# Altium footprint library ISO-V3.PcbLib: 63 footprints (part 1 of 4)
Each footprint in its own frame and in the unit in brackets; x right, y up, seen from the top. Pads: shape width x height; smd on the part's side, far side on the other; paste and mask are expansions set on the pad; w line width, h text height; cw(c..) or ccw(c..) is an arc to the next point about the centre after c.
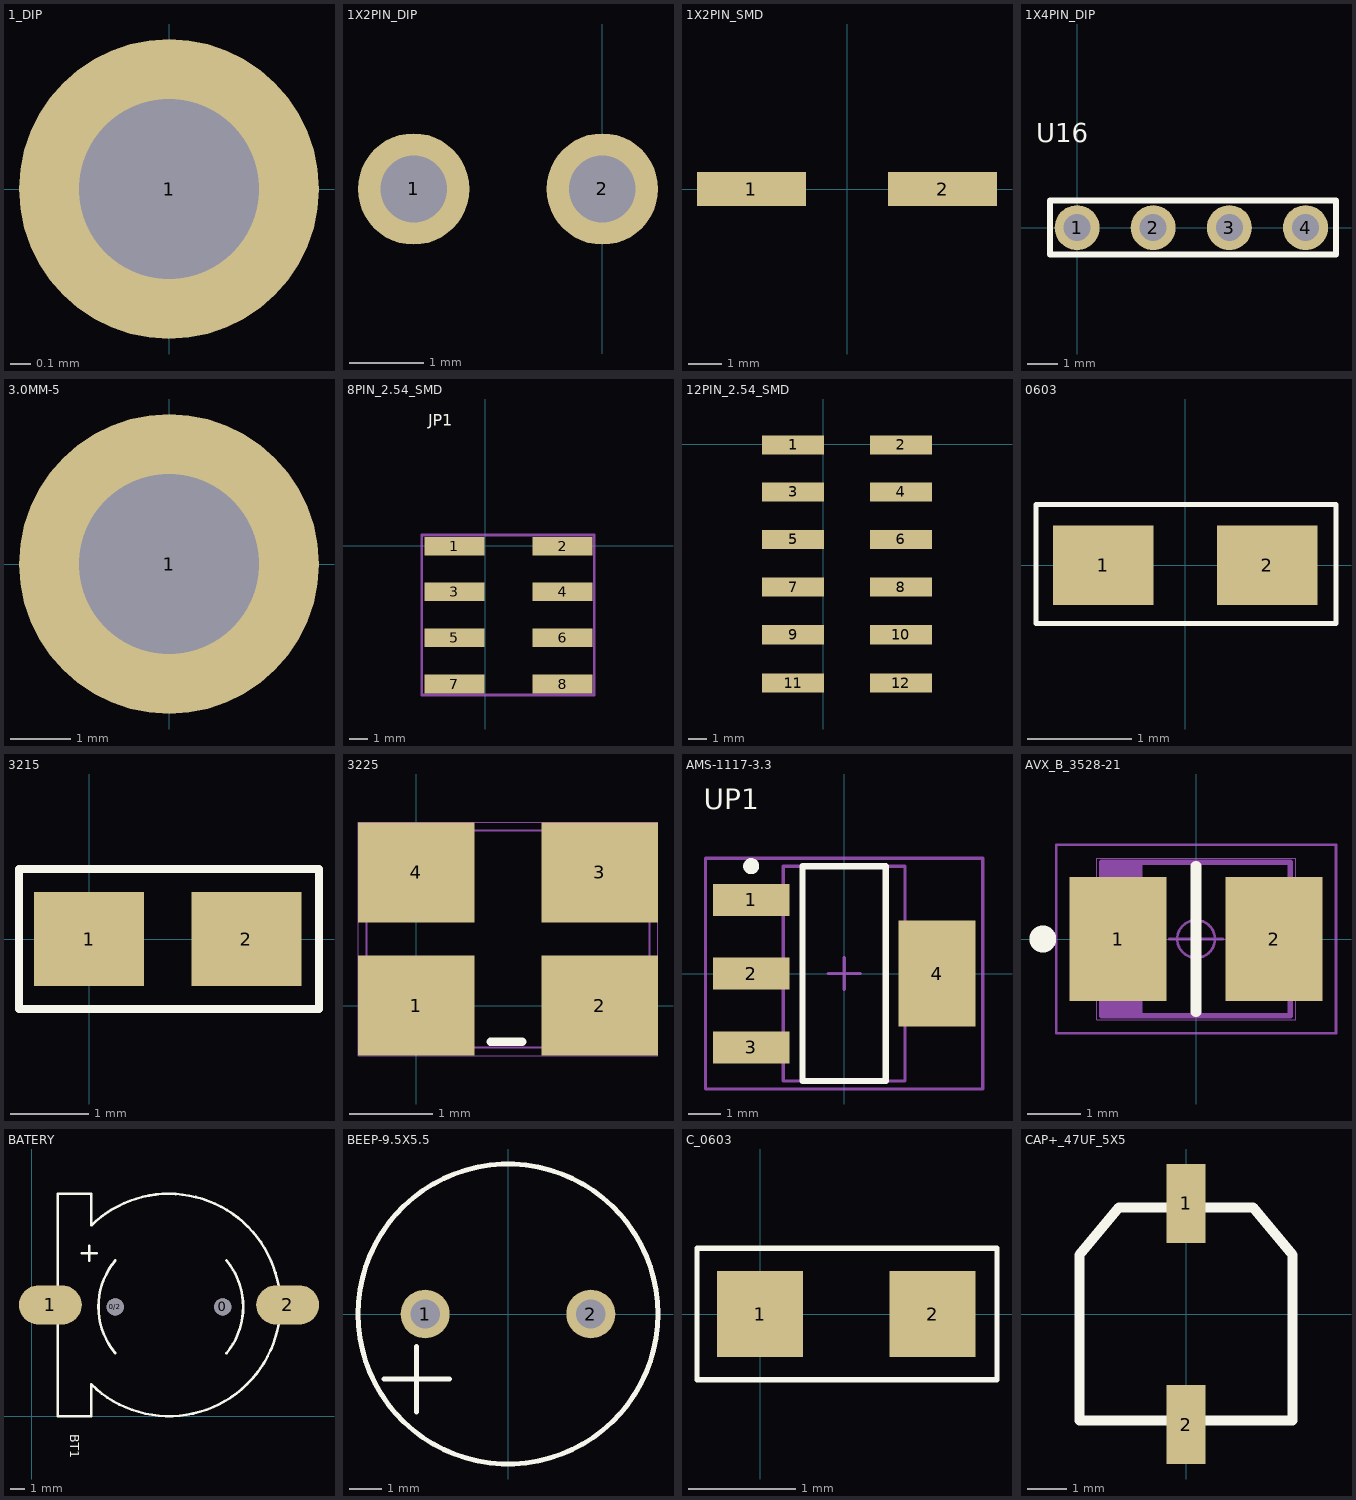
[diagram p0: the footprints below, top view; thin cyan lines are the x and y axes]

## 1_DIP [mm]
pads (1):
  round 1.5 hole 0.9: 1(0,0)

## 1X2PIN_DIP [mm]
pads (2):
  round 1.5 hole 0.9: 1(-2.54,2.54) 2(0,2.54)

## 1X2PIN_SMD [mm]
pads (2):
  rect 3.3x1.02 smd: 1(-2.9,0.011) 2(2.9,0.011)

## 1X4PIN_DIP [mm]
pads (4):
  round 1.5 hole 0.9: 1(0,0) 2(2.54,0) 3(5.08,0) 4(7.62,0)
Top Overlay:
  lines w0.2: -0.9,-0.9 8.636,-0.9 8.636,0.9 -0.9,0.9 -0.9,-0.9
  text "U16" at -1.37,2.843 h0.64

## 3.0MM-5 [mm]
pads (1):
  round 5 hole 3: 1(0,0)

## 8PIN_2.54_SMD [mm]
pads (8):
  rect 3.3x1.02 smd: 1(-1.7,-0.04) 2(4.25,-0.04) 3(-1.7,-2.54) 4(4.25,-2.54) 5(-1.7,-5.08) 6(4.25,-5.08) 7(-1.7,-7.62) 8(4.25,-7.62)
Top Overlay:
  text "JP1" at -3.127,6.6 h0.64
Mechanical 1:
  lines w0.15: -3.5,-8.23 -3.5,0.584 6,0.584 6,-8.23 -3.5,-8.23

## 12PIN_2.54_SMD [mm]
pads (12):
  rect 3.3x1.02 smd: 1(-1.6,-0.04) 2(4.15,-0.04) 3(-1.6,-2.54) 4(4.15,-2.54) 5(-1.6,-5.08) 6(4.15,-5.08) 7(-1.6,-7.62) 8(4.15,-7.62) 9(-1.6,-10.16) 10(4.15,-10.16) 11(-1.6,-12.74) 12(4.15,-12.74)

## 0603 [mil]
pads (2):
  rect 38x30 smd: 1(-31,0) 2(31,0)
Top Overlay:
  lines w2: -56.53,-22 57,-22 57,23 -56.53,23 -56.53,-22

## 3215 [mm]
pads (2):
  rect 1.4x1.2 smd: 1(0,0) 2(2,0)
Top Overlay:
  lines w0.1: -0.889,-0.889 2.921,-0.889 2.921,0.889 -0.889,0.889 ; -0.889,0.889 -0.889,-0.855 -0.889,0.889

## 3225 [mm]
pads (4):
  rect 1.4x1.2 smd paste-0.06 mask+0.05: 1(0,0) 2(2.2,0) 3(2.2,1.6) 4(0,1.6)
Top Overlay:
  lines w0.1: 0.889,-0.432 1.27,-0.432
Mechanical 15:
  lines w0.025: -0.6,-0.5 -0.6,2.1 2.8,2.1 2.8,-0.5 -0.6,-0.5
Mechanical 16:
  lines w0.003: -0.7,-0.6 -0.7,2.2 2.9,2.2 2.9,-0.6 -0.7,-0.6

## AMS-1117-3.3 [mm]
height 1.6
pads (4):
  rect 2.4x1 smd: 1(-2.9,2.3) 2(-2.9,0) 3(-2.9,-2.3)
  rect 2.4x3.3 smd: 4(2.9,0)
Top Overlay:
  circle w0.25: c-2.9,3.35 r0.125
  lines w0.2: -1.3,-3.35 1.3,-3.35 1.3,3.35 -1.3,3.35 -1.3,-3.35
  text "UP1" at -4.375,5.123 h0.64
Mechanical 16:
  lines w0.1: -0.5,0 0.5,0 ; 0,-0.5 0,0.5 ; -4.325,-3.6 4.325,-3.6 4.325,3.6 -4.325,3.6 -4.325,-3.6 ; -1.9,-3.35 1.9,-3.35 1.9,3.35 -1.9,3.35 -1.9,-3.35

## AVX_B_3528-21 [mm]
height 1.9
pads (2):
  rect 1.8x2.3 smd: 1(-1.45,0) 2(1.45,0)
Top Overlay:
  circle w0.25: c-2.85,0 r0.125
  lines w0.2: 0,-1.35 0,1.35
Mechanical 1:
  lines w0.1: -1.65,-1.425 -1.65,1.425 ; -1.55,-1.425 -1.55,1.425 ; -1.45,-1.425 -1.45,1.425 ; -1.35,-1.425 -1.35,1.425 ; -1.25,-1.425 -1.25,1.425 ; -1.15,-1.425 -1.15,1.425 ; -1.05,-1.425 -1.05,1.425 ; -1.75,-1.425 1.75,-1.425 1.75,1.425 -1.75,1.425 -1.75,-1.425
  text "C39" at -0.616,-0.502 h0.75
Mechanical 16:
  circle w0.05: c0,0 r0.35
  lines w0.001: -1.85,-1.5 1.85,-1.5 1.85,1.5 -1.85,1.5 -1.85,-1.5
  lines w0.05: -0.5,0 0.5,0 ; 0,-0.5 0,0.5 ; -2.6,-1.75 2.6,-1.75 2.6,1.75 -2.6,1.75 -2.6,-1.75

## BATERY [mil]
pads (4):
  round 46 hole 46: 0(515,295) 0/2(225,295)
  oval 169.29x106.3 smd: 1(50,300) 2(690,300)
Top Overlay:
  lines w7: 135,440 175,440 ; 155,420 155,460 ; 160.38,85.39 160,0 70,0 70,300 70,600 160,600 160.38,514.61 ; 160.48,85.29 ccw(c370,300) 668.19,267.08 ; 160.48,514.71 cw(c370,300) 370,600 cw(c370,300) 668.19,332.92 ; 224.77,170.28 cw(c375,295) 224.99,419.99 ; 525.01,170.01 ccw(c375,295) 525.01,419.99
  text "BT1" at 103.84,-48.79 h24.68

## BEEP-9.5X5.5 [mm]
pads (2):
  round 1.5 hole 0.9: 1(-2.54,0) 2(2.54,0)
Top Overlay:
  circle w0.152: c0,0 r4.6
  lines w0.152: -3.8,-2 -1.8,-2 ; -2.8,-3 -2.8,-1

## C_0603 [mm]
pads (2):
  rect 0.8x0.8 smd: 1(0,0) 2(1.6,0)
Top Overlay:
  lines w0.051: -0.584,-0.61 2.197,-0.61 2.197,0.61 -0.584,0.61 -0.584,-0.61

## CAP+_47UF_5X5 [mm]
pads (2):
  rect 1x2 smd: 1(0,2.8) 2(0,-2.8)
Top Overlay:
  lines w0.254: -2.7,-2.7 2.7,-2.7 2.7,1.5 1.7,2.7 -1.7,2.7 -2.7,1.5 -2.7,-2.7